# EAGLE library part INA333 (library Eagle_CAD_parts)
0.05ìV/°C max, SINGLE-SUPPLY CMOS OPERATIONAL AMPLIFIERS Zer.-Drift Series
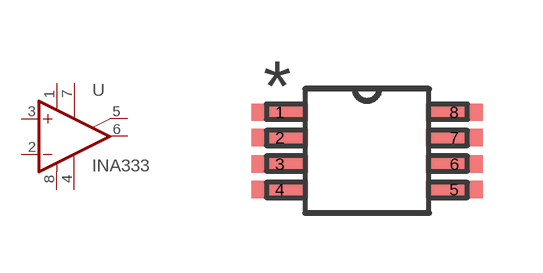
[diagram p5: symbol with the pads of 8-VSSOP; footprint 8-VSSOP]

Designator prefix U

## INA333 (MPN: INA333AIDGKR; OC_FARNELL: 1631194; OC_NEWARK: 01P0907; PACKAGE: MSOP-8; SUPPLIER: Texas Instruments)  [8-VSSOP]
1  RG+  pas
2  -IN  in
3  +IN  in
4  V-  pwr
5  REF  pas
6  OUT  out
7  V+  pwr
8  RG-  pas

## Footprint 8-VSSOP (pad centres in mm)
smd 1.422 x 0.432: 1 -2.184,0.965; 2 -2.184,0.33; 3 -2.184,-0.33; 4 -2.184,-0.965; 5 2.184,-0.965; 6 2.184,-0.33; 7 2.184,0.33; 8 2.184,0.965